# EAGLE library part LMR2 (library trackuino)
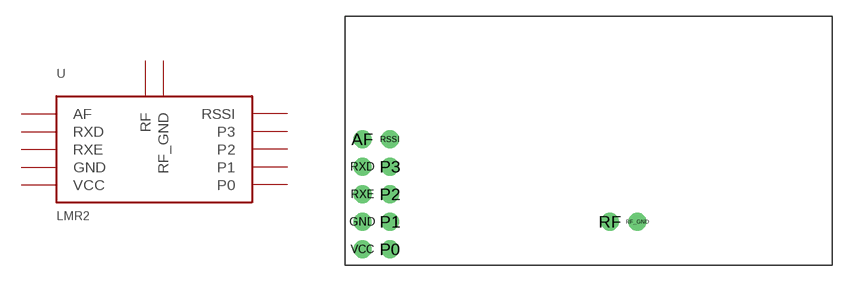
[diagram p3: symbol with the pads of LMR2; footprint LMR2]

Designator prefix -

## LMR2  [LMR2]
AF  AF  out
GND  GND  pwr
P0  P0  in
P1  P1  in
P2  P2  in
P3  P3  in
RF  RF
RF_GND  RF_GND  pwr
RSSI  RSSI  out
RXD  RXD  out
RXE  RXE  in
VCC  VCC  pwr

## Footprint LMR2 (pad centres in mm)
drill 0.8 pad 1.676: AF -20.32,0; GND -20.32,-7.62; P0 -17.78,-10.16; P1 -17.78,-7.62; P2 -17.78,-5.08; P3 -17.78,-2.54; RF 2.54,-7.62; RF_GND 5.08,-7.62; RSSI -17.78,0; RXD -20.32,-2.54; RXE -20.32,-5.08; VCC -20.32,-10.16